# EAGLE library part NHD-C12832A1Z (library newhaven_display)
NHD-C12832A1Z Chip On Glass Liquid Crystal Display Module by Newhaven display, 128 x 32 pixels
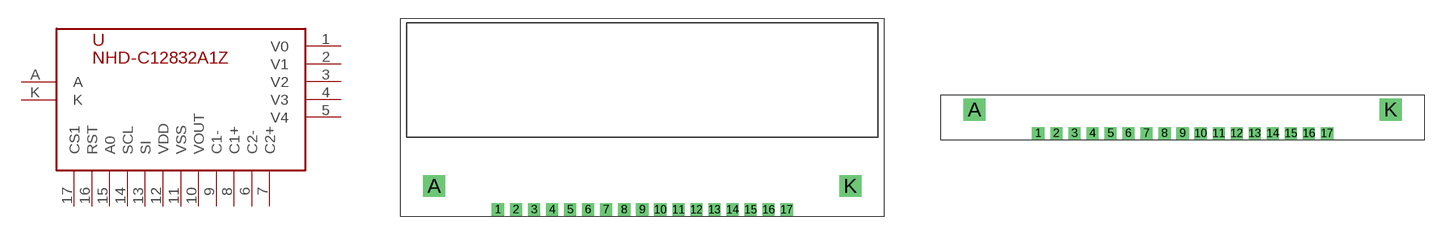
[diagram p0: symbol with the pads of NHD-C12832A1Z; footprints NHD-C12832A1Z, NHD-C12832A1Z-PINS_ONLY]

Designator prefix -

## NHD-C12832A1ZBOARDOUTLINE  [NHD-C12832A1Z]
1  V0
2  V1
3  V2
4  V3
5  V4
6  C2-
7  C2+
8  C1+
9  C1-
10  VOUT
11  VSS
12  VDD
13  SI
14  SCL
15  A0
16  RST
17  CS1
A  A
K  K

## NHD-C12832A1ZNO_OUTLINE  [NHD-C12832A1Z-PINS_ONLY]
Pads as for NHD-C12832A1Z

## Footprint NHD-C12832A1Z (pad centres in mm)
NHD-C12832A1Z chip on glass liquid display Module
drill 0.5 square: 1 8.1,0.6; 2 9.6,0.6; 3 11.1,0.6; 4 12.6,0.6; 5 14.1,0.6; 6 15.6,0.6; 7 17.1,0.6; 8 18.6,0.6; 9 20.1,0.6; 10 21.6,0.6; 11 23.1,0.6; 12 24.6,0.6; 13 26.1,0.6; 14 27.6,0.6; 15 29.1,0.6; 16 30.6,0.6; 17 32.1,0.6
drill 1.2 square: A 2.8,2.55; K 37.4,2.55

## Footprint NHD-C12832A1Z-PINS_ONLY (pad centres in mm)
NHD-C12832A1Z chip on glass liquid display Module
drill 0.5 square: 1 8.1,0.6; 2 9.6,0.6; 3 11.1,0.6; 4 12.6,0.6; 5 14.1,0.6; 6 15.6,0.6; 7 17.1,0.6; 8 18.6,0.6; 9 20.1,0.6; 10 21.6,0.6; 11 23.1,0.6; 12 24.6,0.6; 13 26.1,0.6; 14 27.6,0.6; 15 29.1,0.6; 16 30.6,0.6; 17 32.1,0.6
drill 1.2 square: A 2.8,2.55; K 37.4,2.55